# Altium footprint library zhaoyujiu.PcbLib: 24 footprints (part 1 of 2)
Each footprint in its own frame and in the unit in brackets; x right, y up, seen from the top. Pads: shape width x height; smd on the part's side, far side on the other; paste and mask are expansions set on the pad; w line width, h text height; cw(c..) or ccw(c..) is an arc to the next point about the centre after c.
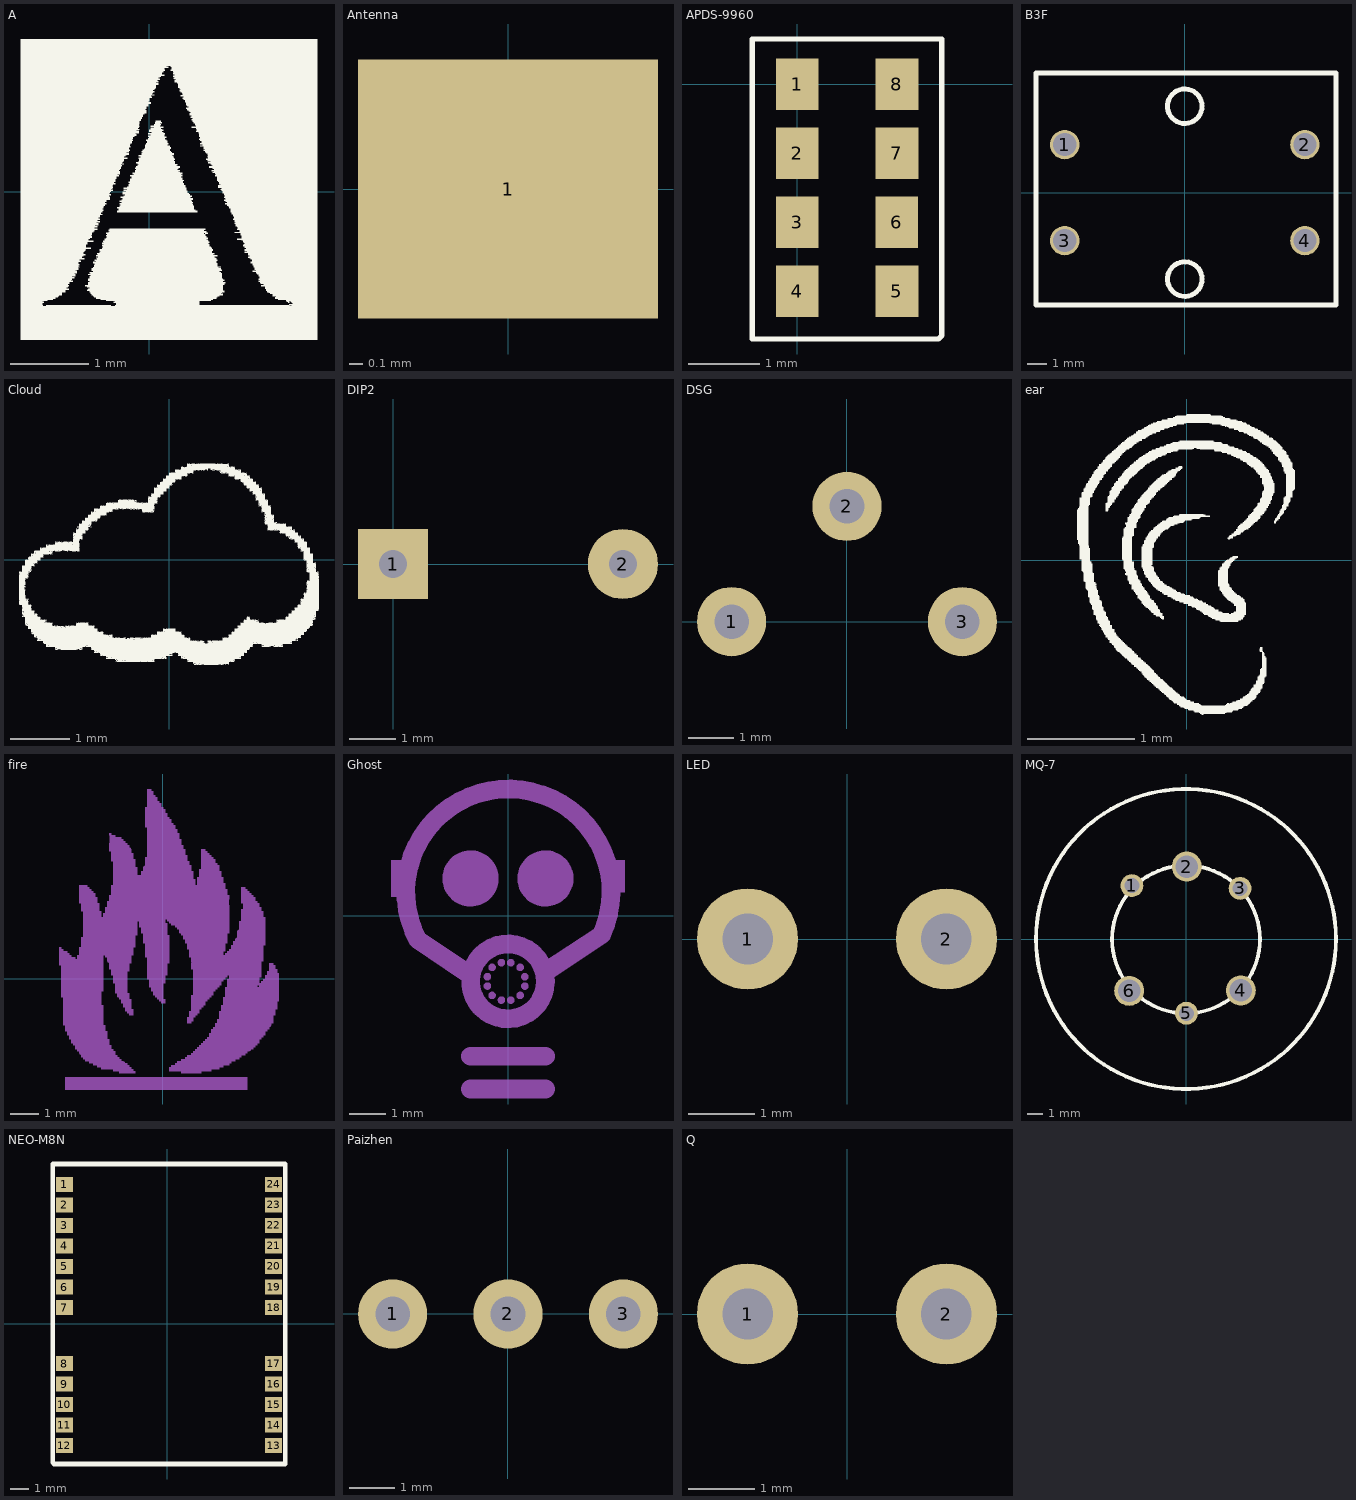
[diagram p0: the footprints below, top view; thin cyan lines are the x and y axes]

## A [mil]
Top Overlay:
  drawing of 1205 lines, arcs and shapes, not listed

## Antenna [mm]
pads (1):
  rect 2.2x1.9 smd: 1(0,0)

## APDS-9960 [mm]
pads (8):
  rect 0.6x0.72 smd: 1(0,0) 2(0,-0.97) 3(0,-1.94) 4(0,-2.91) 5(1.4,-2.91) 6(1.397,-1.94) 7(1.4,-0.97) 8(1.4,0)
Top Overlay:
  lines w0.076: -0.635,-3.581 -0.635,-3.556 -0.635,0.635 2.032,0.635 2.032,-3.531 1.981,-3.581 -0.635,-3.581

## B3F [mm]
pads (4):
  round 1.524 hole 1.2: 1(-6.25,2.5) 2(6.25,2.5) 3(-6.25,-2.5) 4(6.25,-2.5)
Top Overlay:
  circle w0.254: c0,4.5 r0.9
  circle w0.254: c0,-4.5 r0.9
  lines w0.254: -7.747,-5.842 7.874,-5.842 7.874,6.223 -7.747,6.223 -7.747,-5.842

## Cloud [mil]
Top Overlay:
  drawing of 4885 lines, arcs and shapes, not listed

## DIP2 [mil]
pads (2):
  rect 60x60 hole 23.62: 1(0,0)
  round 60 hole 23.62: 2(196.85,0)

## DSG [mil]
pads (3):
  round 60 hole 30: 1(-100,0) 2(0,100) 3(100,0)

## ear [mil]
Top Overlay:
  drawing of 1163 lines, arcs and shapes, not listed

## fire [mil]
Bottom Overlay:
  drawing of 4107 lines, arcs and shapes, not listed

## Ghost [mil]
Bottom Overlay:
  circle w4: c-17,-55 r2
  circle w4: c-22,-65 r2
  circle w4: c-22,-75 r2
  circle w4: c-17,-85 r2
  circle w4: c-7,-90 r2
  circle w4: c3,-90 r2
  circle w4: c13,-85 r2
  circle w4: c18,-75 r2
  circle w4: c18,-65 r2
  circle w4: c13,-55 r2
  circle w4: c3,-50 r2
  circle w4: c-7,-50 r2
  circle w30: c40,40 r15
  circle w30: c-40,40 r15
  circle w20: c0,-70 r40
  rectangle: 110,25 125,60
  rectangle: -125,20 -110,60
  lines w20: -45,-60 -96.48,-25.35 cw(c0.43,25.95) 100,-20 40,-60 ; -40,-185 40,-185 ; -40,-150 40,-150

## HT7833 [mil]

## LED [mil]
pads (2):
  round 60 hole 30: 1(-59.06,0) 2(59.06,0)

## MQ-7 [mil]
pads (6):
  round 60 hole 39.37: 1(-142,140) 3(142,133) 5(1,-195)
  round 78.74 hole 59.06: 2(2,190) 4(144,-135) 6(-149,-136)
Top Overlay:
  circle w10: c0,-1 r194
  circle w10: c0,0 r393.7

## NEO-M8N [mm]
pads (24):
  rect 0.9x0.8 smd: 1(-5.512,7.468) 2(-5.512,6.368) 3(-5.512,5.268) 4(-5.512,4.168) 5(-5.512,3.068) 6(-5.512,1.968) 7(-5.512,0.868) 8(-5.512,-2.132) 9(-5.512,-3.232) 10(-5.512,-4.332) 11(-5.512,-5.432) 12(-5.512,-6.532) 13(5.69,-6.532) 14(5.69,-5.432) 15(5.69,-4.332) 16(5.69,-3.232) 17(5.69,-2.132) 18(5.69,0.868) 19(5.69,1.968) 20(5.69,3.068) 21(5.69,4.168) 22(5.69,5.268) 23(5.69,6.368) 24(5.69,7.468)
Top Overlay:
  lines w0.254: -6.147,-7.44 -6.147,8.56 6.325,8.56 6.325,-7.518 -6.071,-7.518

## Paizhen [mil]
pads (3):
  round 60 hole 30: 1(-100,0) 2(0,0) 3(100,0)

## Q [mil]
pads (2):
  round 60 hole 30: 1(-59.06,0) 2(59.06,0)